# EAGLE library part SIM800 (library zkseagle)
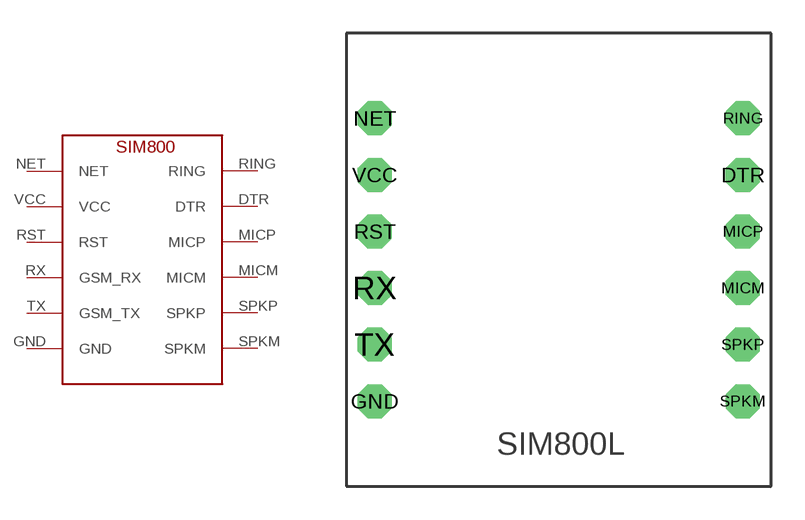
[diagram p27: symbol with the pads of GSM0800_P; footprint GSM0800_P]

Designator prefix -

## SIM800  [GSM0800_P]
DTR  DTR  sup
GND  GND  sup
MICM  MICM  sup
MICP  MICP  sup
NET  NET  sup
RING  RING  sup
RST  RST  sup
RX  GSM_RX  in
SPKM  SPKM  sup
SPKP  SPKP  sup
TX  GSM_TX  in
VCC  VCC  sup

## Footprint GSM0800_P (pad centres in mm)
drill 1 pad 1.524 octagon: DTR 16.51,-2.54; GND 0,-12.7; MICM 16.51,-7.62; MICP 16.51,-5.08; NET 0,0; RING 16.51,0; RST 0,-5.08; RX 0,-7.62; SPKM 16.51,-12.7; SPKP 16.51,-10.16; TX 0,-10.16; VCC 0,-2.54